# EAGLE library part TJA1022 (library comma.ai)
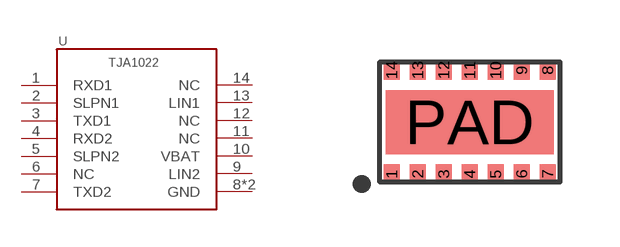
[diagram p21: symbol with the pads of HVSON-14; footprint HVSON-14]

Designator prefix U

## TJA1022  [HVSON-14]
1  RXD1
2  SLPN1
3  TXD1  pwr
4  RXD2
5  SLPN2
6  NC  nc
7  TXD2
8  GND
9  LIN2
10  VBAT
11  NC  nc
12  NC  nc
13  LIN1
14  NC  nc
PAD  GND

## Footprint HVSON-14 (pad centres in mm)
smd 0.4 x 0.5: 1 -1.95,-1.3; 2 -1.3,-1.3; 3 -0.65,-1.3; 4 0,-1.3; 5 0.65,-1.3; 6 1.3,-1.3; 7 1.95,-1.3; 8 1.95,1.3; 9 1.3,1.3; 10 0.65,1.3; 11 0,1.3; 12 -0.65,1.3; 13 -1.3,1.3; 14 -1.95,1.3
smd 4.2 x 1.6: PAD 0,0